# EAGLE library part ATXMEGA32E5 (library Supernode-MCU)
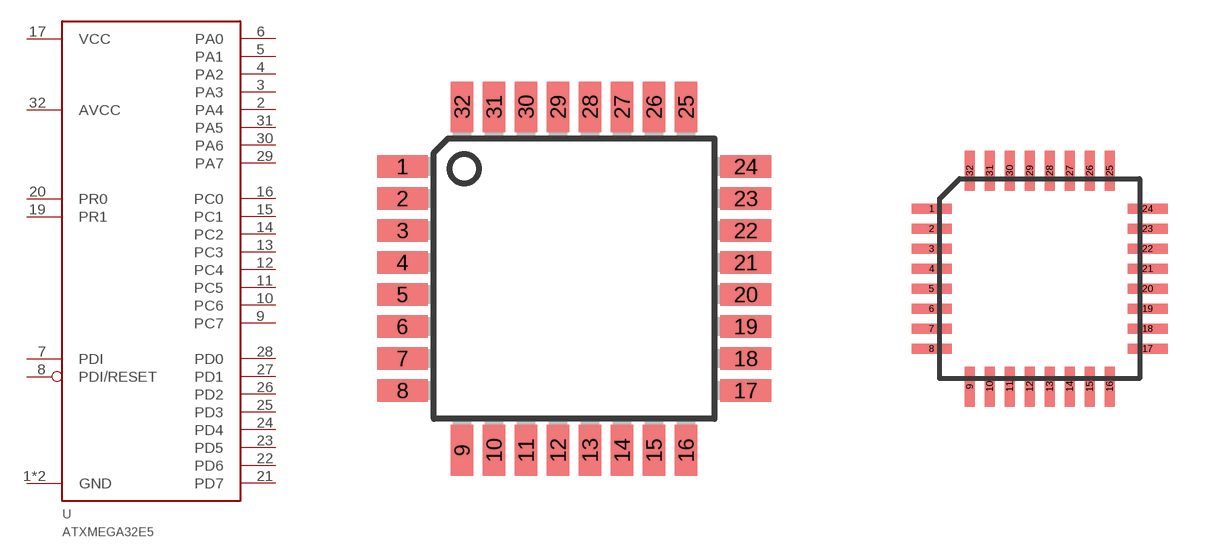
[diagram p1: symbol with the pads of TQFP32; footprints TQFP32, VQFN32-5X5]

Designator prefix U

## ATXMEGA32E5AU  [TQFP32]
1  GND  pwr
2  PA4
3  PA3
4  PA2
5  PA1
6  PA0
7  PDI
8  PDI/RESET
9  PC7
10  PC6
11  PC5
12  PC4
13  PC3
14  PC2
15  PC1
16  PC0
17  VCC  pwr
18  GND  pwr
19  PR1
20  PR0
21  PD7
22  PD6
23  PD5
24  PD4
25  PD3
26  PD2
27  PD1
28  PD0
29  PA7
30  PA6
31  PA5
32  AVCC  pwr

## ATXMEGA32E5MU  [VQFN32-5X5]
Pads as for TQFP32

## Footprint TQFP32 (pad centres in mm)
smd 1.27 x 0.559: 1 -4.293,2.8; 2 -4.293,2; 3 -4.293,1.2; 4 -4.293,0.4; 5 -4.293,-0.4; 6 -4.293,-1.2; 7 -4.293,-2; 8 -4.293,-2.8; 17 4.293,-2.8; 18 4.293,-2; 19 4.293,-1.2; 20 4.293,-0.4; 21 4.293,0.4; 22 4.293,1.2; 23 4.293,2; 24 4.293,2.8
smd 0.559 x 1.27: 9 -2.8,-4.293; 10 -2,-4.293; 11 -1.2,-4.293; 12 -0.4,-4.293; 13 0.4,-4.293; 14 1.2,-4.293; 15 2,-4.293; 16 2.8,-4.293; 25 2.8,4.293; 26 2,4.293; 27 1.2,4.293; 28 0.4,4.293; 29 -0.4,4.293; 30 -1.2,4.293; 31 -2,4.293; 32 -2.8,4.293

## Footprint VQFN32-5X5 (pad centres in mm)
smd 1 x 0.25: 1 -2.7,1.75; 2 -2.7,1.25; 3 -2.7,0.75; 4 -2.7,0.25; 5 -2.7,-0.25; 6 -2.7,-0.75; 7 -2.7,-1.25; 8 -2.7,-1.75; 17 2.7,-1.75; 18 2.7,-1.25; 19 2.7,-0.75; 20 2.7,-0.25; 21 2.7,0.25; 22 2.7,0.75; 23 2.7,1.25; 24 2.7,1.75
smd 0.25 x 1: 9 -1.75,-2.7; 10 -1.25,-2.7; 11 -0.75,-2.7; 12 -0.25,-2.7; 13 0.25,-2.7; 14 0.75,-2.7; 15 1.25,-2.7; 16 1.75,-2.7; 25 1.75,2.7; 26 1.25,2.7; 27 0.75,2.7; 28 0.25,2.7; 29 -0.25,2.7; 30 -0.75,2.7; 31 -1.25,2.7; 32 -1.75,2.7